# EAGLE library part NTA0312MC (library MDB_HOME_BACK2)
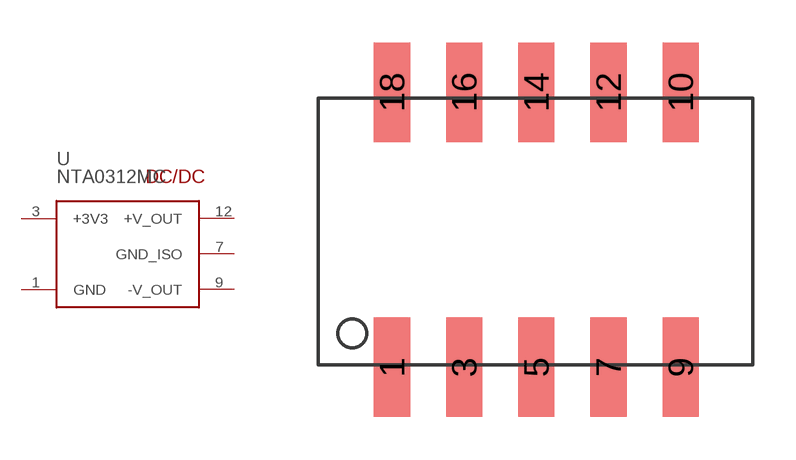
[diagram p4: symbol with the pads of DC-DC-2CHAN-SMD; footprint DC-DC-2CHAN-SMD]

Designator prefix -

## NTA0312MC_SMD  [DC-DC-2CHAN-SMD]
1  GND  sup
3  +3V3  sup
5  5  nc
7  GND_ISO  pwr
9  -V_OUT  pwr
10  14  nc
12  +V_OUT  pwr
14  7  nc
16  16  nc
18  18  nc

## Footprint DC-DC-2CHAN-SMD (pad centres in mm)
smd 1.27 x 3.5: 1 -5.08,-4.61; 3 -2.54,-4.61; 5 0,-4.61; 7 2.54,-4.61; 9 5.08,-4.61; 10 5.08,5.08; 12 2.54,5.08; 14 0,5.08; 16 -2.54,5.08; 18 -5.08,5.08